# EAGLE library part S6P-VH (library con-jst-vh)
JST VH Series header 3.96mm pitch disconnectable crimp style connectors, horizontal (side entry type), 6 pins
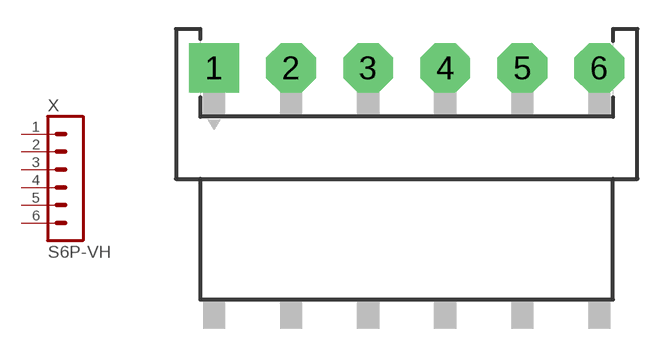
[diagram p11: symbol with the pads of S6P-VH; footprint S6P-VH]

Designator prefix X

## S6P-VH  [S6P-VH]
1  1  pas
2  2  pas
3  3  pas
4  4  pas
5  5  pas
6  6  pas

## Footprint S6P-VH (pad centres in mm)
JST VH Series header 3.96mm pitch disconnectable crimp style connectors, horizontal (side entry type), 6 pins
drill 1.7 pad 2.54 square: 1 -9.9,0
drill 1.7 pad 2.54 octagon: 2 -5.94,0; 3 -1.98,0; 4 1.98,0; 5 5.94,0; 6 9.9,0